# EAGLE library part POWERMISC_LM5109BSD (library motor_board_tmc)
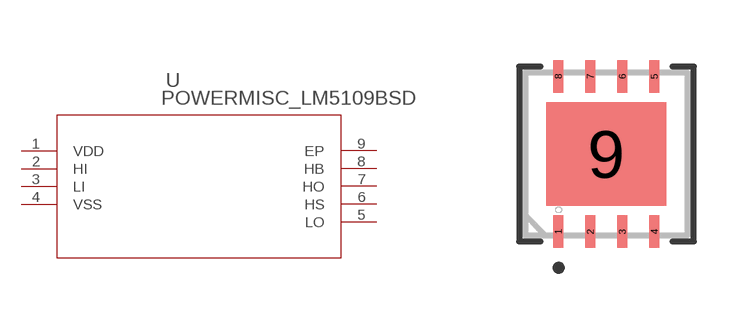
[diagram p2: symbol with the pads of POWERMISC_SDC08A; footprint POWERMISC_SDC08A]

Designator prefix U

## POWERMISC_LM5109BSD (MANUFACTURER_PART_NUMBER: lm5109bsd; VENDOR: Texas Instruments)  [POWERMISC_SDC08A]
1  VDD  pwr
2  HI  in
3  LI  in
4  VSS  pwr
5  LO  out
6  HS  in
7  HO  out
8  HB  in
9  EP  pwr

## Footprint POWERMISC_SDC08A (pad centres in mm)
smd 0.254 x 0.813: 1 -1.2,-1.943; 2 -0.4,-1.943; 3 0.4,-1.943; 4 1.2,-1.943; 5 1.2,1.943; 6 0.4,1.943; 7 -0.4,1.943; 8 -1.2,1.943
smd 2.997 x 2.591: 9 0,0